# Altium schematic symbol library sm_cap.SchLib: 20 symbols
Pins are listed as number, name and electrical type; pins without a type are passive.

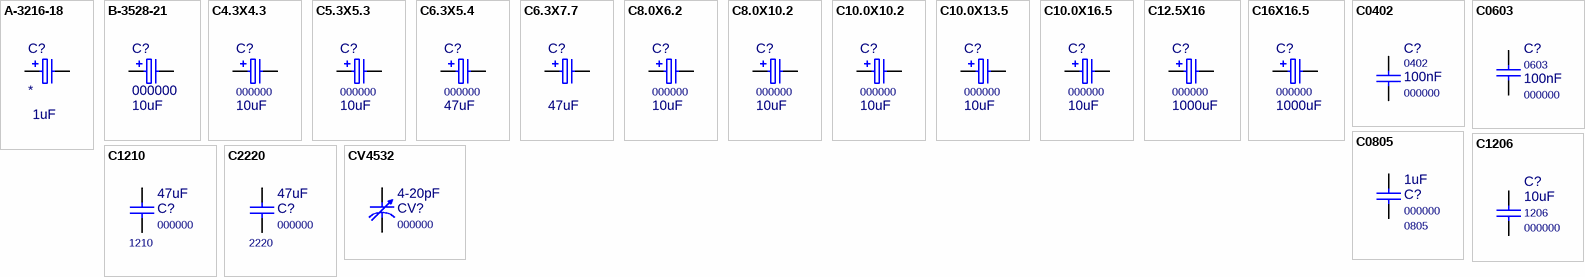
[diagram p0: symbols A-3216-18 to CV4532]

## A-3216-18
designator C?  value 1uF
Solid Tantalum Chip Capacitor; PN: 000000; Package: *; ExtraInfo: *
footprint A-3216-18 (Solid Tantalum Chip Capacitor)
signal-integrity model Cap
pins: 1, 2
1 alternate drawing of the same symbol

## B-3528-21
designator C?, comment 000000  value 10uF
Solid Tantalum Chip Capacitor; PN: 000000; ExtraInfo: *
footprint B-3528-21 (Solid Tantalum Chip Capacitor)
signal-integrity model Cap
pins: 1, 2
1 alternate drawing of the same symbol

## C4.3X4.3
designator C?, comment 000000  value 10uF
SMD Aluminum Electrolytic Capacitor; PN: 000000; Package: 4.3x5.4mm; ExtraInfo: *
footprint AEC-B (SMD Aluminum Electrolytic Capacitor 4.3mm X 5.4mm)
signal-integrity model Cap
pins: 1, 2
1 alternate drawing of the same symbol

## C5.3X5.3
designator C?, comment 000000  value 10uF
SMD Aluminum Electrolytic Capacitor; PN: 000000; Package: 5.3x5.3mm; ExtraInfo: *
footprint PCE (SMD Aluminum Electrolytic Capacitor 5.3mm X 5.3mm)
signal-integrity model Cap
pins: 1, 2
1 alternate drawing of the same symbol

## C6.3X5.4
designator C?, comment 000000  value 47uF
SMD Aluminum Electrolytic Capacitor; PN: 000000; Package: 6.3x5.4mm; ExtraInfo: *
footprint AEC-D (SMD Aluminum Electrolytic Capacitor 6.3mm X 5.4mm)
simulation model CAP (Capacitor)
signal-integrity model Cap
pins: 1, 2
1 alternate drawing of the same symbol

## C6.3X7.7
designator C?  value 47uF
SMD Aluminum Electrolytic Capacitor; PN: 000000; Package: 6.3x7.7mm; ExtraInfo: *
simulation model CAP (Capacitor)
signal-integrity model Cap
footprint AEC-D8 (SMD Aluminum Electrolytic Capacitor 6.3mm X 7.7mm)
pins: 1, 2
1 alternate drawing of the same symbol

## C8.0X6.2
designator C?, comment 000000  value 10uF
SMD Aluminum Electrolytic Capacitor; PN: 000000; Package: 8.0x6.2mm; ExtraInfo: *
simulation model CAP (Capacitor)
signal-integrity model Cap
footprint AEC-E (SMD Aluminum Electrolytic Capacitor 8.0mm X 6.2mm)
pins: 1, 2
1 alternate drawing of the same symbol

## C8.0X10.2
designator C?, comment 000000  value 10uF
SMD Aluminum Electrolytic Capacitor; PN: 000000; Package: 8.0x10.2mm; ExtraInfo: *
simulation model CAP (Capacitor)
signal-integrity model Cap
footprint AEC-F (SMD Aluminum Electrolytic Capacitor 8.0mm X 10.2mm)
pins: 1, 2
1 alternate drawing of the same symbol

## C10.0X10.2
designator C?, comment 000000  value 10uF
SMD Aluminum Electrolytic Capacitor; PN: 000000; Package: 10.0x10.2mm; ExtraInfo: *
footprint AEC-G (SMD Aluminum Electrolytic Capacitor 10.0mm X 10.2mm)
signal-integrity model Cap
pins: 1, 2
1 alternate drawing of the same symbol

## C10.0X13.5
designator C?, comment 000000  value 10uF
SMD Aluminum Electrolytic Capacitor; PN: 000000; Package: 10.0x13.5mm; ExtraInfo: *
signal-integrity model Cap
footprint AEC-G13 (SMD Aluminum Electrolytic Capacitor 10.3mm X 13.5mm)
pins: 1, 2
1 alternate drawing of the same symbol

## C10.0X16.5
designator C?, comment 000000  value 10uF
SMD Aluminum Electrolytic Capacitor; PN: 000000; Package: 10.0x16.5mm; ExtraInfo: *
signal-integrity model Cap
footprint AEC-G17 (SMD Aluminum Electrolytic Capacitor 10.3mm X 16.5mm)
pins: 1, 2
1 alternate drawing of the same symbol

## C12.5X16
designator C?, comment 000000  value 1000uF
SMD Aluminum Electrolytic Capacitor; PN: 000000; Package: 12.5x16.0mm; ExtraInfo: *
footprint AEC-H16 (SMD Aluminum Electrolytic Capacitor 12.5mm X 16.0mm)
signal-integrity model Cap
pins: 1, 2
1 alternate drawing of the same symbol

## C16X16.5
designator C?, comment 000000  value 1000uF
SMD Aluminum Electrolytic Capacitor; PN: 000000; Package: 16x16.5mm; ExtraInfo: *
footprint AEC-J16 (SMD Aluminum Electrolytic Capacitor 16.0mm X 16.5mm)
signal-integrity model Cap
pins: 1, 2
1 alternate drawing of the same symbol

## C0402
designator C?, comment 000000  value 100nF  Package: 0402
SMD - Ceramic Chip Capacitor - 0402; PN: 000000; ExtraInfo: *
simulation model CAP (Capacitor)
signal-integrity model Cap
footprint C0402L (Chip Capacitor, 2-Leads, Body 1.0x0.5mm, IPC Low Density)
footprint C0402H (Chip Capacitor, 2-Leads, Body 1.0x0.5mm, IPC High Density)
footprint C0402M (Chip Capacitor, 2-Leads, Body 1.0x0.5mm, IPC Medium Density)
pins: 1, 2

## C0603
designator C?, comment 000000  value 100nF  Package: 0603
SMD Ceramic Chip Capacitor - 0603; PN: 000000; ExtraInfo: *
simulation model CAP (Capacitor)
signal-integrity model Cap
footprint C0603H (Chip Capacitor, 2-Leads, Body 1.6x0.8mm, IPC High Density)
footprint C0603L (Chip Capacitor, 2-Leads, Body 1.6x0.8mm, IPC Low Density)
footprint C0603M (Chip Capacitor, 2-Leads, Body 1.6x0.8mm, IPC Medium Density)
footprint C0603HV (Chip Capacitor, 2-Leads, Body 1.6x0.8mm, IPC High Voltage)
pins: 1, 2

## C0805
designator C?, comment 000000  value 1uF  Package: 0805
SMD Ceramic Chip Capacitor - 0805; PN: 000000; ExtraInfo: *
simulation model CAP (Capacitor)
signal-integrity model Cap
footprint C0805H (Chip Capacitor, 2-Leads, Body 2.0x1.3mm, IPC High Density)
footprint C0805L (Chip Capacitor, 2-Leads, Body 2.0x1.3mm, IPC Low Density)
footprint C0805M (Chip Capacitor, 2-Leads, Body 2.0x1.3mm, IPC Medium Density)
footprint C0805HV (Chip Capacitor, 2-Leads, Body 2.0x1.3mm, IPC High Voltage)
pins: 1, 2

## C1206
designator C?, comment 000000  value 10uF  Package: 1206
SMD Ceramic Chip Capacitor - 1206; PN: 000000; ExtraInfo: *
simulation model CAP (Capacitor)
signal-integrity model Cap
footprint C1206H (Chip Capacitor, 2-Leads, Body 3.2x1.6mm, IPC High Density)
footprint C1206L (Chip Capacitor, 2-Leads, Body 3.2x1.6mm, IPC Low Density)
footprint C1206M (Chip Capacitor, 2-Leads, Body 3.2x1.6mm, IPC Medium Density)
footprint C1206HV (Chip Capacitor, 2-Leads, Body 3.2x1.6mm, IPC High Voltage)
pins: 1, 2

## C1210
designator C?, comment 000000  value 47uF  Package: 1210
SMD Ceramic Chip Capacitor - 1210; PN: 000000; ExtraInfo: *
simulation model CAP (Capacitor)
signal-integrity model Cap
footprint C1210H (Chip Capacitor, 2-Leads, Body 3.2x2.5mm, IPC High Density)
footprint C1210L (Chip Capacitor, 2-Leads, Body 3.2x1.6mm, IPC Low Density)
footprint C1210M (Chip Capacitor, 2-Leads, Body 3.2x2.5mm, IPC Medium Density)
footprint C1210HV (Chip Capacitor, 2-Leads, Body 3.2x2.5mm, IPC High Voltage)
pins: 1, 2

## C2220
designator C?, comment 000000  value 47uF  Package: 2220
SMD Ceramic Chip Capacitor - 2220; PN: 000000; ExtraInfo: *; MF: *; MF PN: *
simulation model CAP (Capacitor)
signal-integrity model Cap
footprint C2220M (Chip Capacitor, 2-Leads, Body 3.2x2.5mm, IPC Medium Density)
pins: 1, 2

## CV4532
designator CV?, comment 000000  value 4-20pF
SMD Variable Capacitor; Package: SMD; PN: 000000; ExtraInfo: *
footprint CV4532 (SMD Variable Capacitor)
signal-integrity model Cap
pins: 1, 2